# EAGLE library part 805-323 (library con-wago_805)
Serie 805, Klemmenleiste für Leiterplatten 1 Lötstift/Pol versetzt / Series 805, PCB terminal strip 1 solder pin/pole, staggered Polzahl / Pole No.: 23 Rastermaß / Pitch: 3.5 mm Bemessungsspannung / Rated Voltage: 320 V Nennstrom / Nominal Current: 17.5 A Leiterquerschnitt / Conductor Size: 0.2 - 1.5 mm2 Anschlusstechnik / Connection Technology: CAGE CLAMP® S Lötstiftlänge: / Solder Pin Length: 3.2 mm Leitereinführung (zur Platine) / Conductor entry angle (to PCB): 0 ° Farbe / Color: grau / gray Stand: 01.01.2014. Die jeweils aktuellen Daten zu diesem Artikel finden Sie in unserem Produktkatalog, den Sie unter www.wago.com einsehen können. As of: 01/01/2014. Please find the newest data for this article in our product catalogue, which can be viewed under www.wago.com.
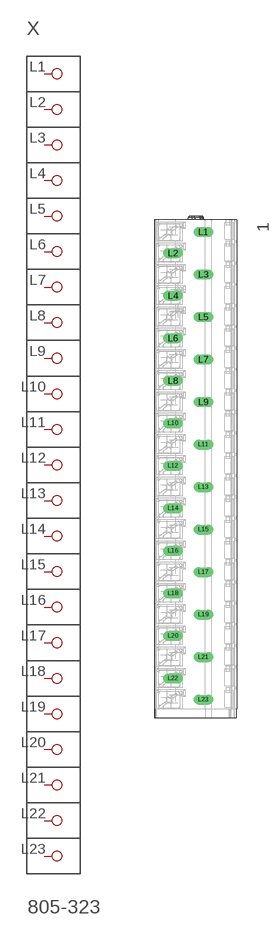
[diagram p36: symbol with the pads of P-805-323; footprint P-805-323]

Designator prefix X

## 805-323  [P-805-323]
L1  P1
L2  P2
L3  P3
L4  P4
L5  P5
L6  P6
L7  P7
L8  P8
L9  P9
L10  P10
L11  P11
L12  P12
L13  P13
L14  P14
L15  P15
L16  P16
L17  P17
L18  P18
L19  P19
L20  P20
L21  P21
L22  P22
L23  P23

## Footprint P-805-323 (pad centres in mm)
drill 1.1 long: L1 1.3,38.7; L2 -3.7,35.2; L3 1.3,31.7; L4 -3.7,28.2; L5 1.3,24.7; L6 -3.7,21.2; L7 1.3,17.7; L8 -3.7,14.2; L9 1.3,10.7; L10 -3.7,7.2; L11 1.3,3.7; L12 -3.7,0.2; L13 1.3,-3.3; L14 -3.7,-6.8; L15 1.3,-10.3; L16 -3.7,-13.8; L17 1.3,-17.3; L18 -3.7,-20.8; L19 1.3,-24.3; L20 -3.7,-27.8; L21 1.3,-31.3; L22 -3.7,-34.8; L23 1.3,-38.3